# Altium footprint library VQFN-16(3.0X3.0).PcbLib: 1 footprints
Each footprint in its own frame and in the unit in brackets; x right, y up, seen from the top. Pads: shape width x height; smd on the part's side, far side on the other; paste and mask are expansions set on the pad; w line width, h text height; cw(c..) or ccw(c..) is an arc to the next point about the centre after c.
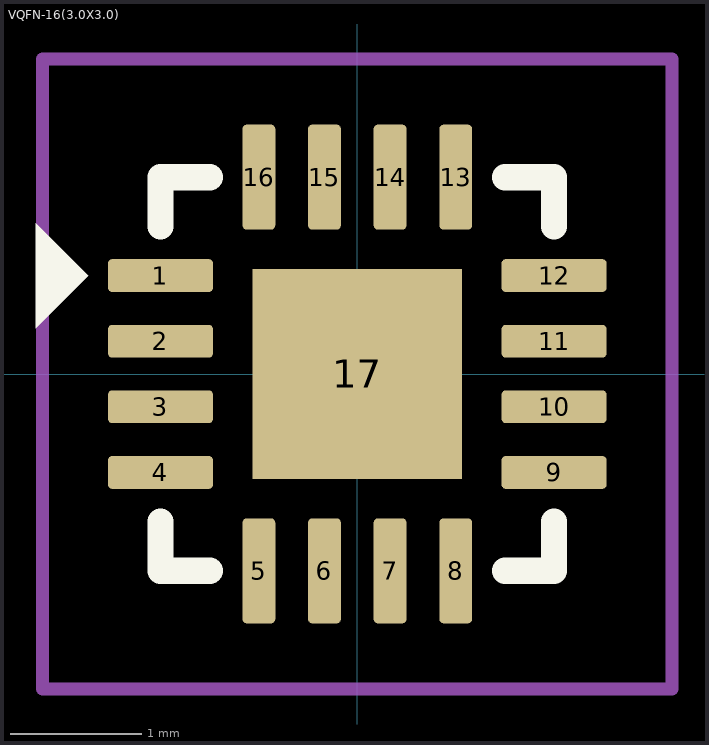
[diagram p0: the footprint, top view; thin cyan lines are the x and y axes]

## VQFN-16(3.0X3.0) [mm]
pads (17):
  rrect25% 0.8x0.25 smd: 1(-1.5,0.75) 2(-1.5,0.25) 3(-1.5,-0.25) 4(-1.5,-0.75) 9(1.5,-0.75) 10(1.5,-0.25) 11(1.5,0.25) 12(1.5,0.75)
  rrect25% 0.25x0.8 smd: 5(-0.75,-1.5) 6(-0.25,-1.5) 7(0.25,-1.5) 8(0.75,-1.5) 13(0.75,1.5) 14(0.25,1.5) 15(-0.25,1.5) 16(-0.75,1.5)
  rect 1.6x1.6 smd paste-2: 17(0,0)
Top Overlay:
  region: -2.45,0.35 -2.45,1.15 -2.05,0.75
  lines w0.2: -1.5,-1.125 -1.5,-1.5 -1.125,-1.5 ; -1.5,1.125 -1.5,1.5 -1.125,1.5 ; 1.125,-1.5 1.5,-1.5 1.5,-1.125 ; 1.125,1.5 1.5,1.5 1.5,1.125
Top Courtyard:
  lines w0.1: -2.4,-2.4 2.4,-2.4 2.4,2.4 -2.4,2.4 -2.4,-2.4
3D body "step_temp.STEP": height 1, standoff 0, extent -1.5,-1.5 1.5,1.5